# EAGLE library part LTC1682-5 (library casovac)
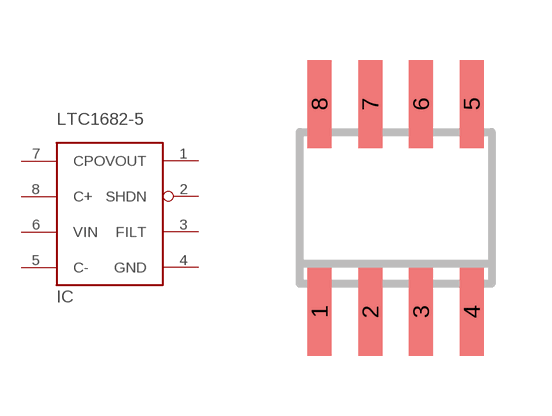
[diagram p6: symbol with the pads of SO08; footprint SO08]

Designator prefix IC

## LTC1682-5  [SO08]
1  VOUT
2  SHDN
3  FILT
4  GND
5  C-
6  VIN
7  CPO
8  C+

## Footprint SO08 (pad centres in mm)
smd 0.6 x 2.2: 1 -1.905,-2.6; 2 -0.635,-2.6; 3 0.635,-2.6; 4 1.905,-2.6; 5 1.905,2.6; 6 0.635,2.6; 7 -0.635,2.6; 8 -1.905,2.6